# EAGLE library part SST25VF016BTRUE (library machine_science)
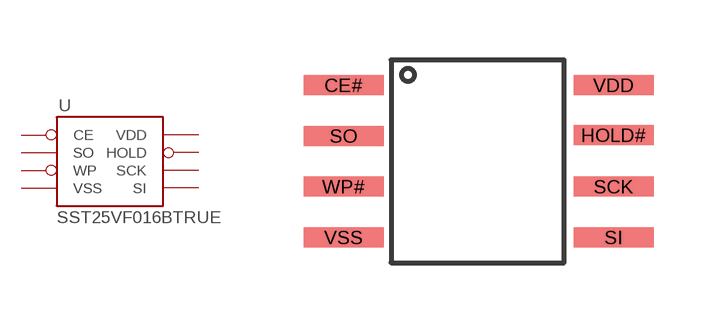
[diagram p38: symbol with the pads of WSON; footprint WSON]

Designator prefix -

## SST25VF016BTRUE  [WSON]
CE#  CE  in
HOLD#  HOLD  in
SCK  SCK  in
SI  SI  in
SO  SO  out
VDD  VDD  pwr
VSS  VSS  pwr
WP#  WP  in

## Footprint WSON (pad centres in mm)
smd 2 x 0.5: CE# -3.29,1.595; HOLD# 3.46,0.345; SCK 3.46,-0.945; SI 3.46,-2.215; SO -3.29,0.325; VDD 3.46,1.595; VSS -3.29,-2.215; WP# -3.29,-0.945